# Altium footprint library IPC-7355 QFP_Shrink_Rect_30P_Side_L.PcbLib: 12 footprints (part 2 of 2)
Each footprint in its own frame and in the unit in brackets; x right, y up, seen from the top. Pads: shape width x height; smd on the part's side, far side on the other; paste and mask are expansions set on the pad; w line width, h text height; cw(c..) or ccw(c..) is an arc to the next point about the centre after c.
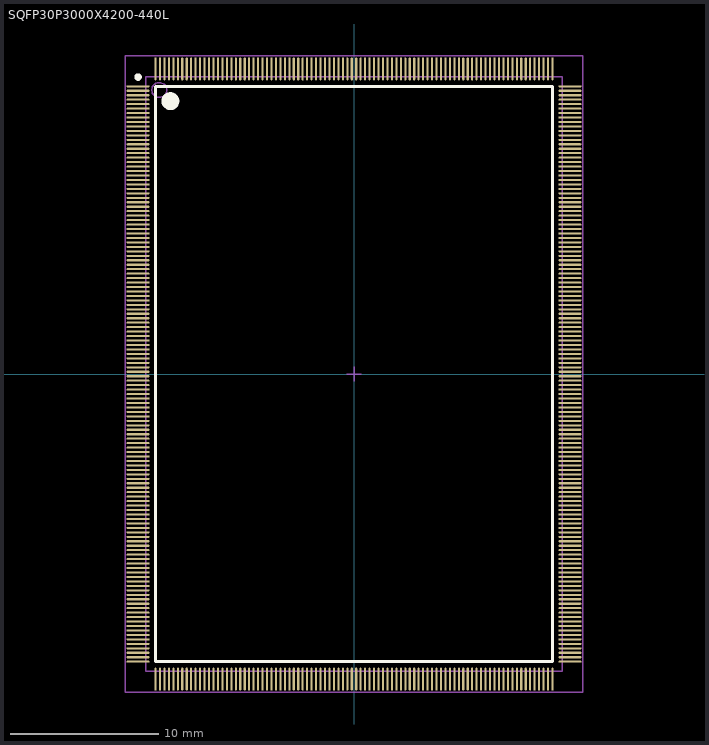
[diagram p1: the footprint, top view; thin cyan lines are the x and y axes]

## SQFP30P3000X4200-440L [mm] "Shrink QFP, 440-Leads, Body 40x28 mm, Pitch 0.3mm, IPC High Density"
height 4.2
pads (440):
  oval 1.55x0.14 smd: 1(-14.525,19.35) 2(-14.525,19.05) 3(-14.525,18.75) 4(-14.525,18.45) 5(-14.525,18.15) 6(-14.525,17.85) 7(-14.525,17.55) 8(-14.525,17.25) 9(-14.525,16.95) 10(-14.525,16.65) 11(-14.525,16.35) 12(-14.525,16.05) 13(-14.525,15.75) 14(-14.525,15.45) 15(-14.525,15.15) 16(-14.525,14.85) 17(-14.525,14.55) 18(-14.525,14.25) 19(-14.525,13.95) 20(-14.525,13.65) 21(-14.525,13.35) 22(-14.525,13.05) 23(-14.525,12.75) 24(-14.525,12.45) 25(-14.525,12.15) 26(-14.525,11.85) 27(-14.525,11.55) 28(-14.525,11.25) 29(-14.525,10.95) 30(-14.525,10.65) 31(-14.525,10.35) 32(-14.525,10.05) 33(-14.525,9.75) 34(-14.525,9.45) 35(-14.525,9.15) 36(-14.525,8.85) 37(-14.525,8.55) 38(-14.525,8.25) 39(-14.525,7.95) 40(-14.525,7.65) 41(-14.525,7.35) 42(-14.525,7.05) 43(-14.525,6.75) 44(-14.525,6.45) 45(-14.525,6.15) 46(-14.525,5.85) 47(-14.525,5.55) 48(-14.525,5.25) 49(-14.525,4.95) 50(-14.525,4.65) 51(-14.525,4.35) 52(-14.525,4.05) 53(-14.525,3.75) 54(-14.525,3.45) 55(-14.525,3.15) 56(-14.525,2.85) 57(-14.525,2.55) 58(-14.525,2.25) 59(-14.525,1.95) 60(-14.525,1.65) 61(-14.525,1.35) 62(-14.525,1.05) 63(-14.525,0.75) 64(-14.525,0.45) 65(-14.525,0.15) 66(-14.525,-0.15) 67(-14.525,-0.45) 68(-14.525,-0.75) 69(-14.525,-1.05) 70(-14.525,-1.35) 71(-14.525,-1.65) 72(-14.525,-1.95) 73(-14.525,-2.25) 74(-14.525,-2.55) 75(-14.525,-2.85) 76(-14.525,-3.15) 77(-14.525,-3.45) 78(-14.525,-3.75) 79(-14.525,-4.05) 80(-14.525,-4.35) 81(-14.525,-4.65) 82(-14.525,-4.95) 83(-14.525,-5.25) 84(-14.525,-5.55) 85(-14.525,-5.85) 86(-14.525,-6.15) 87(-14.525,-6.45) 88(-14.525,-6.75) 89(-14.525,-7.05) 90(-14.525,-7.35) 91(-14.525,-7.65) 92(-14.525,-7.95) 93(-14.525,-8.25) 94(-14.525,-8.55) 95(-14.525,-8.85) 96(-14.525,-9.15) 97(-14.525,-9.45) 98(-14.525,-9.75) 99(-14.525,-10.05) 100(-14.525,-10.35) 101(-14.525,-10.65) 102(-14.525,-10.95) 103(-14.525,-11.25) 104(-14.525,-11.55) 105(-14.525,-11.85) 106(-14.525,-12.15) 107(-14.525,-12.45) 108(-14.525,-12.75) 109(-14.525,-13.05) 110(-14.525,-13.35) 111(-14.525,-13.65) 112(-14.525,-13.95) 113(-14.525,-14.25) 114(-14.525,-14.55) 115(-14.525,-14.85) 116(-14.525,-15.15) 117(-14.525,-15.45) 118(-14.525,-15.75) 119(-14.525,-16.05) 120(-14.525,-16.35) 121(-14.525,-16.65) 122(-14.525,-16.95) 123(-14.525,-17.25) 124(-14.525,-17.55) 125(-14.525,-17.85) 126(-14.525,-18.15) 127(-14.525,-18.45) 128(-14.525,-18.75) 129(-14.525,-19.05) 130(-14.525,-19.35) 221(14.525,-19.35) 222(14.525,-19.05) 223(14.525,-18.75) 224(14.525,-18.45) 225(14.525,-18.15) 226(14.525,-17.85) 227(14.525,-17.55) 228(14.525,-17.25) 229(14.525,-16.95) 230(14.525,-16.65) 231(14.525,-16.35) 232(14.525,-16.05) 233(14.525,-15.75) 234(14.525,-15.45) 235(14.525,-15.15) 236(14.525,-14.85) 237(14.525,-14.55) 238(14.525,-14.25) 239(14.525,-13.95) 240(14.525,-13.65) 241(14.525,-13.35) 242(14.525,-13.05) 243(14.525,-12.75) 244(14.525,-12.45) 245(14.525,-12.15) 246(14.525,-11.85) 247(14.525,-11.55) 248(14.525,-11.25) 249(14.525,-10.95) 250(14.525,-10.65) 251(14.525,-10.35) 252(14.525,-10.05) 253(14.525,-9.75) 254(14.525,-9.45) 255(14.525,-9.15) 256(14.525,-8.85) 257(14.525,-8.55) 258(14.525,-8.25) 259(14.525,-7.95) 260(14.525,-7.65) 261(14.525,-7.35) 262(14.525,-7.05) 263(14.525,-6.75) 264(14.525,-6.45) 265(14.525,-6.15) 266(14.525,-5.85) 267(14.525,-5.55) 268(14.525,-5.25) 269(14.525,-4.95) 270(14.525,-4.65) 271(14.525,-4.35) 272(14.525,-4.05) 273(14.525,-3.75) 274(14.525,-3.45) 275(14.525,-3.15) 276(14.525,-2.85) 277(14.525,-2.55) 278(14.525,-2.25) 279(14.525,-1.95) 280(14.525,-1.65) 281(14.525,-1.35) 282(14.525,-1.05) 283(14.525,-0.75) 284(14.525,-0.45) 285(14.525,-0.15) 286(14.525,0.15) 287(14.525,0.45) 288(14.525,0.75) 289(14.525,1.05) 290(14.525,1.35) 291(14.525,1.65) 292(14.525,1.95) 293(14.525,2.25) 294(14.525,2.55) 295(14.525,2.85) 296(14.525,3.15) 297(14.525,3.45) 298(14.525,3.75) 299(14.525,4.05) 300(14.525,4.35) 301(14.525,4.65) 302(14.525,4.95) 303(14.525,5.25) 304(14.525,5.55) 305(14.525,5.85) 306(14.525,6.15) 307(14.525,6.45) 308(14.525,6.75) 309(14.525,7.05) 310(14.525,7.35) 311(14.525,7.65) 312(14.525,7.95) 313(14.525,8.25) 314(14.525,8.55) 315(14.525,8.85) 316(14.525,9.15) 317(14.525,9.45) 318(14.525,9.75) 319(14.525,10.05) 320(14.525,10.35) 321(14.525,10.65) 322(14.525,10.95) 323(14.525,11.25) 324(14.525,11.55) 325(14.525,11.85) 326(14.525,12.15) 327(14.525,12.45) 328(14.525,12.75) 329(14.525,13.05) 330(14.525,13.35) 331(14.525,13.65) 332(14.525,13.95) 333(14.525,14.25) 334(14.525,14.55) 335(14.525,14.85) 336(14.525,15.15) 337(14.525,15.45) 338(14.525,15.75) 339(14.525,16.05) 340(14.525,16.35) 341(14.525,16.65) 342(14.525,16.95) 343(14.525,17.25) 344(14.525,17.55) 345(14.525,17.85) 346(14.525,18.15) 347(14.525,18.45) 348(14.525,18.75) 349(14.525,19.05) 350(14.525,19.35)
  oval 0.14x1.55 smd: 131(-13.35,-20.525) 132(-13.05,-20.525) 133(-12.75,-20.525) 134(-12.45,-20.525) 135(-12.15,-20.525) 136(-11.85,-20.525) 137(-11.55,-20.525) 138(-11.25,-20.525) 139(-10.95,-20.525) 140(-10.65,-20.525) 141(-10.35,-20.525) 142(-10.05,-20.525) 143(-9.75,-20.525) 144(-9.45,-20.525) 145(-9.15,-20.525) 146(-8.85,-20.525) 147(-8.55,-20.525) 148(-8.25,-20.525) 149(-7.95,-20.525) 150(-7.65,-20.525) 151(-7.35,-20.525) 152(-7.05,-20.525) 153(-6.75,-20.525) 154(-6.45,-20.525) 155(-6.15,-20.525) 156(-5.85,-20.525) 157(-5.55,-20.525) 158(-5.25,-20.525) 159(-4.95,-20.525) 160(-4.65,-20.525) 161(-4.35,-20.525) 162(-4.05,-20.525) 163(-3.75,-20.525) 164(-3.45,-20.525) 165(-3.15,-20.525) 166(-2.85,-20.525) 167(-2.55,-20.525) 168(-2.25,-20.525) 169(-1.95,-20.525) 170(-1.65,-20.525) 171(-1.35,-20.525) 172(-1.05,-20.525) 173(-0.75,-20.525) 174(-0.45,-20.525) 175(-0.15,-20.525) 176(0.15,-20.525) 177(0.45,-20.525) 178(0.75,-20.525) 179(1.05,-20.525) 180(1.35,-20.525) 181(1.65,-20.525) 182(1.95,-20.525) 183(2.25,-20.525) 184(2.55,-20.525) 185(2.85,-20.525) 186(3.15,-20.525) 187(3.45,-20.525) 188(3.75,-20.525) 189(4.05,-20.525) 190(4.35,-20.525) 191(4.65,-20.525) 192(4.95,-20.525) 193(5.25,-20.525) 194(5.55,-20.525) 195(5.85,-20.525) 196(6.15,-20.525) 197(6.45,-20.525) 198(6.75,-20.525) 199(7.05,-20.525) 200(7.35,-20.525) 201(7.65,-20.525) 202(7.95,-20.525) 203(8.25,-20.525) 204(8.55,-20.525) 205(8.85,-20.525) 206(9.15,-20.525) 207(9.45,-20.525) 208(9.75,-20.525) 209(10.05,-20.525) 210(10.35,-20.525) 211(10.65,-20.525) 212(10.95,-20.525) 213(11.25,-20.525) 214(11.55,-20.525) 215(11.85,-20.525) 216(12.15,-20.525) 217(12.45,-20.525) 218(12.75,-20.525) 219(13.05,-20.525) 220(13.35,-20.525) 351(13.35,20.525) 352(13.05,20.525) 353(12.75,20.525) 354(12.45,20.525) 355(12.15,20.525) 356(11.85,20.525) 357(11.55,20.525) 358(11.25,20.525) 359(10.95,20.525) 360(10.65,20.525) 361(10.35,20.525) 362(10.05,20.525) 363(9.75,20.525) 364(9.45,20.525) 365(9.15,20.525) 366(8.85,20.525) 367(8.55,20.525) 368(8.25,20.525) 369(7.95,20.525) 370(7.65,20.525) 371(7.35,20.525) 372(7.05,20.525) 373(6.75,20.525) 374(6.45,20.525) 375(6.15,20.525) 376(5.85,20.525) 377(5.55,20.525) 378(5.25,20.525) 379(4.95,20.525) 380(4.65,20.525) 381(4.35,20.525) 382(4.05,20.525) 383(3.75,20.525) 384(3.45,20.525) 385(3.15,20.525) 386(2.85,20.525) 387(2.55,20.525) 388(2.25,20.525) 389(1.95,20.525) 390(1.65,20.525) 391(1.35,20.525) 392(1.05,20.525) 393(0.75,20.525) 394(0.45,20.525) 395(0.15,20.525) 396(-0.15,20.525) 397(-0.45,20.525) 398(-0.75,20.525) 399(-1.05,20.525) 400(-1.35,20.525) 401(-1.65,20.525) 402(-1.95,20.525) 403(-2.25,20.525) 404(-2.55,20.525) 405(-2.85,20.525) 406(-3.15,20.525) 407(-3.45,20.525) 408(-3.75,20.525) 409(-4.05,20.525) 410(-4.35,20.525) 411(-4.65,20.525) 412(-4.95,20.525) 413(-5.25,20.525) 414(-5.55,20.525) 415(-5.85,20.525) 416(-6.15,20.525) 417(-6.45,20.525) 418(-6.75,20.525) 419(-7.05,20.525) 420(-7.35,20.525) 421(-7.65,20.525) 422(-7.95,20.525) 423(-8.25,20.525) 424(-8.55,20.525) 425(-8.85,20.525) 426(-9.15,20.525) 427(-9.45,20.525) 428(-9.75,20.525) 429(-10.05,20.525) 430(-10.35,20.525) 431(-10.65,20.525) 432(-10.95,20.525) 433(-11.25,20.525) 434(-11.55,20.525) 435(-11.85,20.525) 436(-12.15,20.525) 437(-12.45,20.525) 438(-12.75,20.525) 439(-13.05,20.525) 440(-13.35,20.525)
Top Overlay:
  circle w0.25: c-14.525,19.97 r0.125
  circle w0.6: c-12.35,18.35 r0.3
  lines w0.2: -13.35,-19.35 -13.35,19.35 13.35,19.35 13.35,-19.35 -13.35,-19.35
Mechanical 13:
  circle w0.1: c-13.1,19.1 r0.5
  lines w0.1: -14,-20 -14,20 14,20 14,-20 -14,-20
Mechanical 15:
  lines w0.1: -0.5,0 0.5,0 ; 0,-0.5 0,0.5 ; -15.4,-21.4 -15.4,21.4 15.4,21.4 15.4,-21.4 -15.4,-21.4
3D body: height 4.2, standoff 0, extent -14,-20 14,20